# Altium integrated library Linear Technology Power Management Switching Regulator LTC1174-LTC3901.IntLib: 2647 symbols (part 101 of 364)
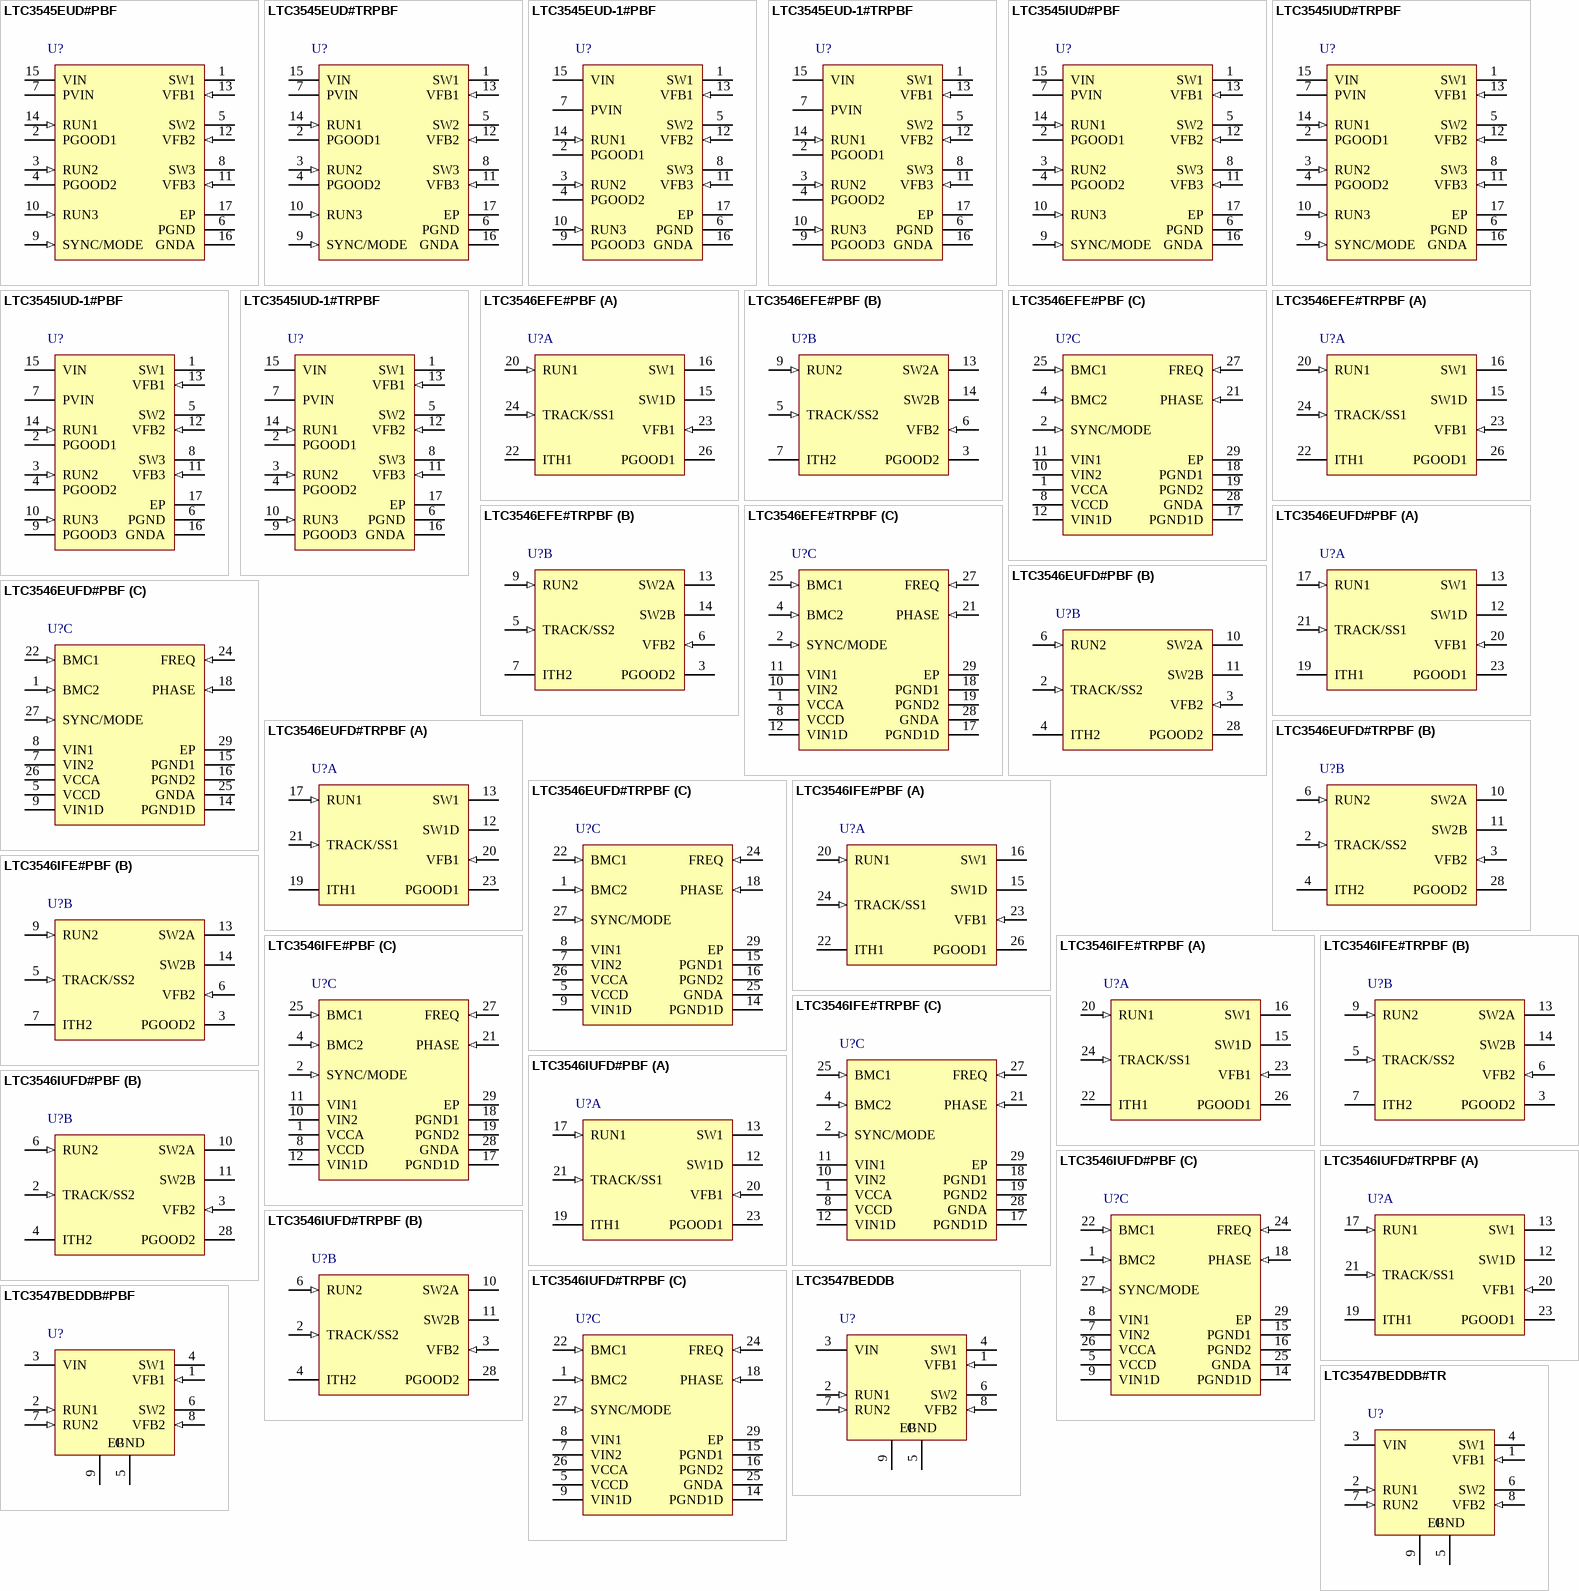
[diagram p266: symbols LTC3545EUD#PBF to LTC3547BEDDB#TR]

## LTC3546IUFD#PBF
designator U?
Dual Synchronous, 3 A / 1 A or 2 A / 2 A Configurable Step-Down DC/DC Regulator, 28-pin QFN (UFD-28), -40 to 125 degC, Pb-Free; Manufacturer: Linear Technology; PartNumber: LTC3546IUFD#PBF; Frequency Adjust Range: 750kHz - 4MHz; Number of Outputs: 2; DatasheetVersion: Rev. C; PackageVersion: Rev. B, 06/2010; PackageReference: UFD-28; PackageDescription: 28-Pin Plastic QFN, Body 5 x 4 mm, Pitch 0.5 mm; Supplier 1: Digi-Key; Supplier Part Number 1: LTC3546IUFD#PBF-ND; Supplier 2: Farnell; Supplier Part Number 2: 2308579; Supplier 3: Newark; Supplier Part Number 3: 56P3086; RoHS: TRUE; Mounting Technology: Surface Mount; Code_JEDEC: MO-220; ComponentLink1Description: Manufacturer URL; ComponentLink1URL: http://www.linear.com/; ComponentLink2Description: Datasheet; ComponentLink2URL: http://cds.linear.com/docs/en/datasheet/3546fc.pdf; ComponentLink3Description: Package Specification; ComponentLink3URL: http://cds.linear.com/docs/en/packaging/QFN_28_05-08-1712.pdf
footprint LT-UFD-28_N (QFN, 28-Leads, Body 5.1x4.1mm, Pitch 0.5mm, Thermal Pad 3.65x2.65mm, IPC Medium Density)
footprint LT-UFD-28_L (QFN, 28-Leads, Body 5.1x4.1mm, Pitch 0.5mm, Thermal Pad 3.65x2.65mm, IPC High Density)
footprint LT-UFD-28_M (QFN, 28-Leads, Body 5.1x4.1mm, Pitch 0.5mm, Thermal Pad 3.65x2.65mm, IPC Low Density)
part A pins: 12 SW1D (power) "The Dependent Switch Node Connection. The pin is externally connected to SW1 for a 2A/2A regulator or to SW2A/B for a 3A/1A regulator. Internal circuitry detects which pin SW1D is externally connected to, SW1 or SW2A/B. This (See Datasheet)", 13 SW1 (power) "The switch node connection to the Inductor for the Channel 1 regulator. This pin swings from VIN1 to PGND1.", 17 RUN1 (in) "Low Level Logic Input. Enable for Channel 1. When pulled high, regulator is running. When at 0V, regulator is off. When both RUN1 and RUN2 are at 0V the part is in shutdown.", 19 ITH1 "Error Amplifier Compensation for Channel 1. Peak current increases with an increase in the voltage on this pin. Nominal voltage range for this pin is 0V to 1.5V.", 20 VFB1 (in) "Feedback voltage from external resistive divider from Channel 1 output. Nominal voltage for this pin is 0.6V.", 21 TRACK/SS1 (in) "Tracking input for Channel 1 output or optional external soft-start input. VOUT1 will track an external voltage at this pin. Leaving this pin floating allows VOUT1 to start-up using the internal soft-start. An external (See Datasheet)", 23 PGOOD1 (oc) "Power Good Pin for the 1A Regulator. This common drain logic output is pulled to GND when the output voltage of Channel 1 is below -8% of regulation."
part B pins: 2 TRACK/SS2 (in) "Tracking input for Channel 2 output or optional external soft-start input. VOUT2 will track an external voltage at this pin. Leaving this pin floating allows VOUT2 to start-up using the internal soft-start. An external (See Datasheet)", 3 VFB2 (in) "Feedback voltage from external resistive divider from the Channel 2 regulator output. Nominal voltage for this pin is 0.6V.", 4 ITH2 "Error Amplifier Compensation for Channel 2 Regulator. Peak current increases with an increase in the voltage on this pin. Nominal voltage range for this pin is 0V to 1.5V.", 6 RUN2 (in) "Low Level Logic Input. Enable for Channel 2. When pulled high, regulator is running. When at 0V, regulator is off. When both RUN1 and RUN2 are at 0V the part is in shutdown.", 10 SW2A (power) "Half of the switch node connection to the inductor for Channel 2. SW2A and SW2B must be externally tied together. This pin swings from VIN2 to PGND2.", 11 SW2B (power) "Half of the switch node connection to the inductor for Channel 2 SW2A and SW2B must be externally tied together. This pin swings from VIN2 to PGND2.", 28 PGOOD2 (oc) "Power Good Pin for Channel 2 This common drain logic output is pulled to GND when the output voltage of Channel 2 is below -8% of regulation."
part C pins: 1 BMC2 (in) "Burst Mode Clamp for Channel 2. Connecting this pin to an external voltage between 0V and 0.6V sets the Burst Mode clamp level. If this pin is pulled to VCCA, an internal Burst Mode clamp level is used. This pin should be (See Datasheet)", 5 VCCD (power) "Supply Pin for Internal Digital Circuitry.", 7 VIN2 (power) "Supply pin for 2A P-channel switch which connects from VIN2 to SW2A/B.", 8 VIN1 (power) "Supply pin for 1A P-channel switch which connects from VIN1 to SW1.", 9 VIN1D (power) "Supply pin for 1A dependent P-channel switch which connects from VIN1D to SW1D.", 14 PGND1D (power) "Ground for SW1D Switching N-Channel Driver.", 15 PGND1 (power) "Ground for SW1 Switching NChannel Driver.", 16 PGND2 (power) "Ground for SW2A and SW2B Switching N-Channel Driver.", 18 PHASE (in) "Low Level Logic Input. Selects Channel 2 regulator switching phase with respect to Channel 1 regulator switching. When pulled high, the SW1 regulator and the SW2A/B regulator are in phase. When PHASE is at 0V the SW1 (See Datasheet)", 22 BMC1 (in) "Burst Mode Clamp for Channel 1. Connecting this pin to an external voltage between 0V and 0.6V sets the Burst Mode clamp level. If this pin is pulled to VCCA, an internal Burst Mode clamp level is used. This pin should be (See Datasheet)", 24 FREQ (in) "Frequency Set Pin. When FREQ is at VCCA, the internal oscillator runs at 2.25MHz. When a resistor is connected from this pin to GNDA, the internal oscillator frequency can be varied from 0.75MHz to 4MHz. When using external (See Datasheet)", 25 GNDA (power) "Ground Pin for Internal Analog Circuitry.", 26 VCCA (power) "Supply Pin for Internal Analog Circuitry.", 27 SYNC/MODE (in) "Combination Mode Selection and Oscillator Synchronization Pin. This pin controls the operation of the device. When the voltage on the SYNC/MODE pin is > (VIN - 0.5V), Burst Mode operation is selected for both regulators. (See Datasheet)", 29 EP (power) "Digital Ground. Connect to Electrical Ground for substrate and internal digital circuitry. Solder to PCB for rated thermal performance."